# Altium footprint library PcbLib1.PcbLib: 2 footprints
Each footprint in its own frame and in the unit in brackets; x right, y up, seen from the top. Pads: shape width x height; smd on the part's side, far side on the other; paste and mask are expansions set on the pad; w line width, h text height; cw(c..) or ccw(c..) is an arc to the next point about the centre after c.
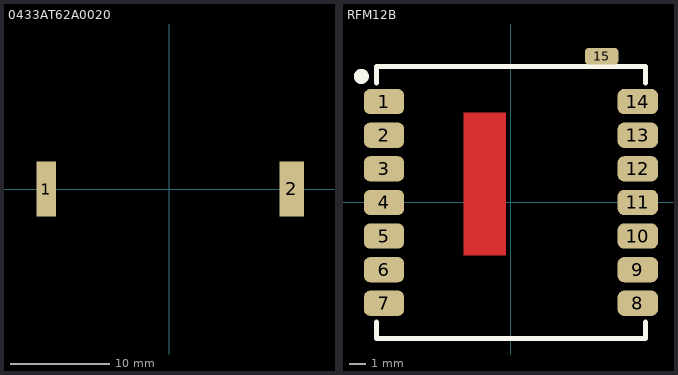
[diagram p0: the footprints below, top view; thin cyan lines are the x and y axes]

## 0433AT62A0020 [mm]
pads (2):
  rect 2x5.5 smd: 1(-12.375,0)
  rect 2.5x5.5 smd: 2(12.375,0)
3D body: height 1.2, standoff 0, extent -12.275,-2.5 12.725,2.5

## RFM12B [mm]
pads (15):
  rrect50% 2.4x1.5 smd: 1(-7.55,6) 2(-7.55,4) 3(-7.55,2) 4(-7.55,0) 5(-7.55,-2) 6(-7.55,-4) 7(-7.55,-6) 8(7.55,-6) 9(7.55,-4) 10(7.55,-2) 11(7.55,0) 12(7.55,2) 13(7.55,4) 14(7.55,6)
  rrect50% 2x1 smd: 15(5.4,8.7)
Top Layer:
  pour cut-out: -2.8,-3.15 -0.3,-3.15 -0.3,5.35 -2.8,5.35
Top Overlay:
  circle w0.5: c-8.9,7.5 r0.2
  lines w0.3: -8,-7.1 -8,-8.1 8,-8.1 8,-7.1 ; -8,7.1 -8,8.1 8,8.1 8,7.1
3D body "RFM12BS.STEP": height 4.12, standoff -0.03, extent -7.96,-8.05 7.96,8.05